# Altium schematic symbol library OUPIIN_SIM_9002-K06.Schlib: 1 symbol
Pins are listed as number, name and electrical type; pins without a type are passive.

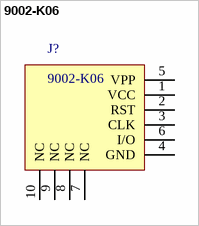
[diagram p0: symbol 9002-K06]

## 9002-K06
designator J?
pins: 1 VCC, 2 RST, 3 CLK, 4 GND, 5 VPP, 6 I/O, 7 NC, 8 NC, 9 NC, 10 NC